# Altium footprint library SnapEDApcb.PcbLib: 1 footprints
Each footprint in its own frame and in the unit in brackets; x right, y up, seen from the top. Pads: shape width x height; smd on the part's side, far side on the other; paste and mask are expansions set on the pad; w line width, h text height; cw(c..) or ccw(c..) is an arc to the next point about the centre after c.
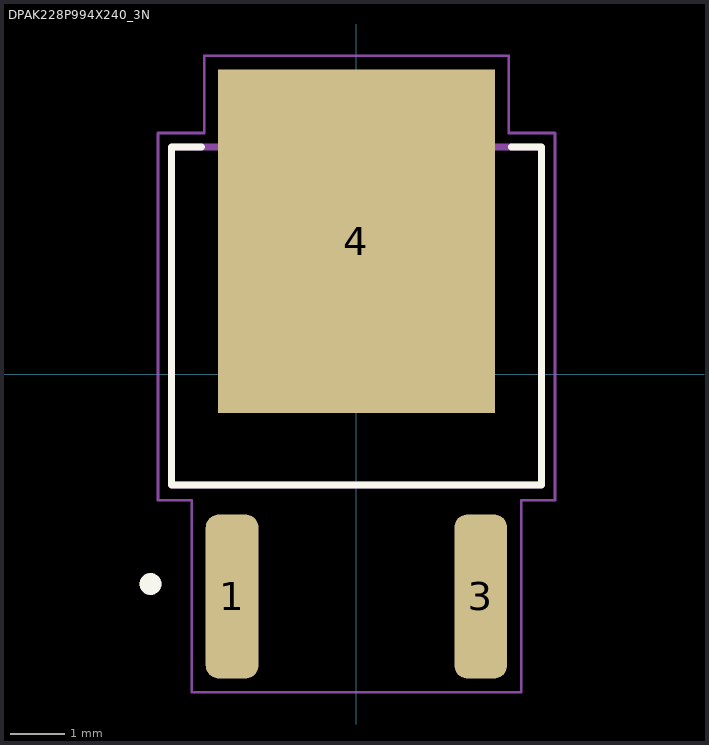
[diagram p0: the footprint, top view; thin cyan lines are the x and y axes]

## DPAK228P994X240_3N [mm]
pads (3):
  rrect50% 0.97x3.02 smd: 1(-2.286,-4.09) 3(2.286,-4.09)
  rect 5.09x6.32 smd paste-4: 4(0,2.44)
Top Overlay:
  circle w0.2: c-3.786,-3.861 r0.1
  lines w0.127: -2.846,4.176 -3.4,4.176 -3.4,-2.044 3.4,-2.044 3.4,4.176 2.846,4.176
Top Paste:
  region: 2.13,1.66 0.41,1.66 0.41,3.22 2.13,3.22
  region: -0.41,1.66 -2.13,1.66 -2.13,3.22 -0.41,3.22
  region: 2.13,3.77 0.41,3.77 0.41,5.33 2.13,5.33
  region: -0.41,3.77 -2.13,3.77 -2.13,5.33 -0.41,5.33
  region: 2.13,-0.45 0.41,-0.45 0.41,1.11 2.13,1.11
  region: -0.41,-0.45 -2.13,-0.45 -2.13,1.11 -0.41,1.11
Mechanical 13:
  circle w0.2: c-3.786,-3.861 r0.1
  lines w0.127: -3.4,-2.044 3.4,-2.044 3.4,4.176 -3.4,4.176 -3.4,-2.044
Mechanical 15:
  lines w0.05: -3.65,-2.32 -3.03,-2.32 -3.03,-5.85 3.03,-5.85 3.03,-2.32 3.65,-2.32 3.65,4.43 2.8,4.43 2.8,5.85 -2.8,5.85 -2.8,4.43 -3.65,4.43 -3.65,-2.32